# Altium footprint library 5747846-4.PcbLib: 2 footprints
Each footprint in its own frame and in the unit in brackets; x right, y up, seen from the top. Pads: shape width x height; smd on the part's side, far side on the other; paste and mask are expansions set on the pad; w line width, h text height; cw(c..) or ccw(c..) is an arc to the next point about the centre after c.
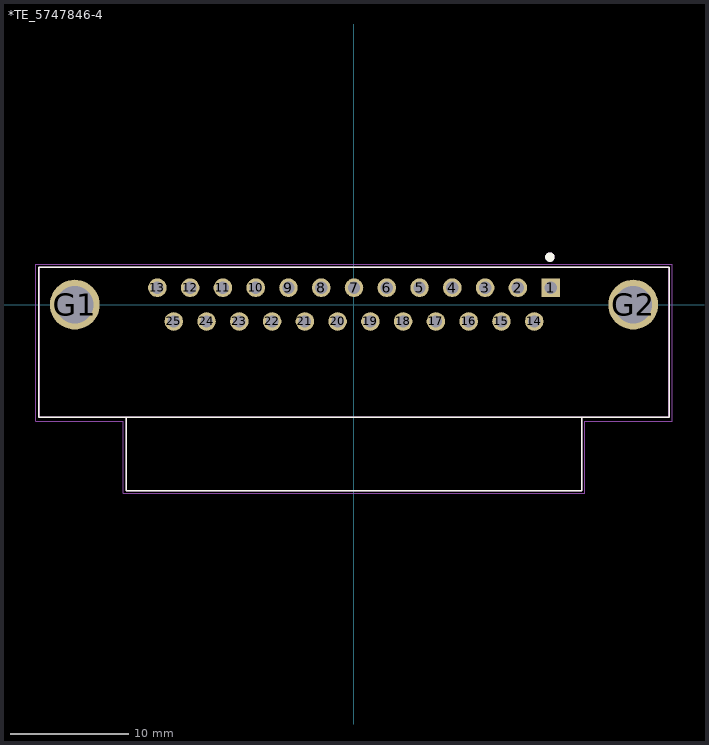
[diagram p0: the footprints below, top view; thin cyan lines are the x and y axes]

## *TE_5747846-4 [mil]
pads (27):
  rect 61.5x61.5 hole 41: 1(651.97,56)
  round 61.5 hole 41: 2(543.31,56) 3(434.65,56) 4(325.98,56) 5(217.32,56) 6(108.66,56) 7(0,56) 8(-108.66,56) 9(-217.32,56) 10(-325.98,56) 11(-434.65,56) 12(-543.31,56) 13(-651.97,56) 14(597.64,-56) 15(488.98,-56) 16(380.32,-56) 17(271.65,-56) 18(162.99,-56) 19(54.33,-56) 20(-54.33,-56) 21(-162.99,-56) 22(-271.65,-56) 23(-380.31,-56) 24(-488.98,-56) 25(-597.64,-56)
  round 165 hole 125: G1(-926,0) G2(926,0)
Top Overlay:
  circle w15.75: c649.61,157.48 r7.87
  lines w5: -755.91,-374 -755.91,-617 755.91,-617 755.91,-374 ; -755.91,-374 -1045.28,-374 -1045.28,124 1045.28,124 1045.28,-374 755.91,-374 ; -755.91,-374 755.91,-374
Mechanical 4:
  circle w15.75: c649.61,157.48 r7.87
  circle w15.75: c649.61,157.48 r7.87
  lines w5: -1044,-374 -1044,124 ; -1044,-374 -755.5,-374 ; -1044,-374 -1044,124 ; -1044,-374 -755.5,-374 ; -1044,124 1044,124 ; -1044,124 1044,124 ; -755.5,-617 -755.5,-374 ; -755.5,-617 755.5,-617 ; -755.5,-617 -755.5,-374 ; -755.5,-617 755.5,-617 ; -755.5,-374 755.5,-374 ; -755.5,-374 755.5,-374 ; 755.5,-617 755.5,-374 ; 755.5,-617 755.5,-374 ; 755.5,-374 1044,-374 ; 755.5,-374 1044,-374 ; 1044,-374 1044,124 ; 1044,-374 1044,124
Mechanical 16:
  lines w1.97: -1055.12,-386.54 -1055.12,133.7 1055.12,133.7 1055.12,-386.54 765.75,-386.54 765.75,-625.63 -765.75,-625.63 -765.75,-386.54 -1055.12,-386.54
3D body "5747846-4--3DModel-STEP-56544.STEP": height 494, standoff -128.4, extent -1042.03,-619 1045.97,121

## PCBComponent_1 [mil]